# Altium footprint library DZ_LIB.PcbLib: 89 footprints (part 2 of 6)
Each footprint in its own frame and in the unit in brackets; x right, y up, seen from the top. Pads: shape width x height; smd on the part's side, far side on the other; paste and mask are expansions set on the pad; w line width, h text height; cw(c..) or ccw(c..) is an arc to the next point about the centre after c.
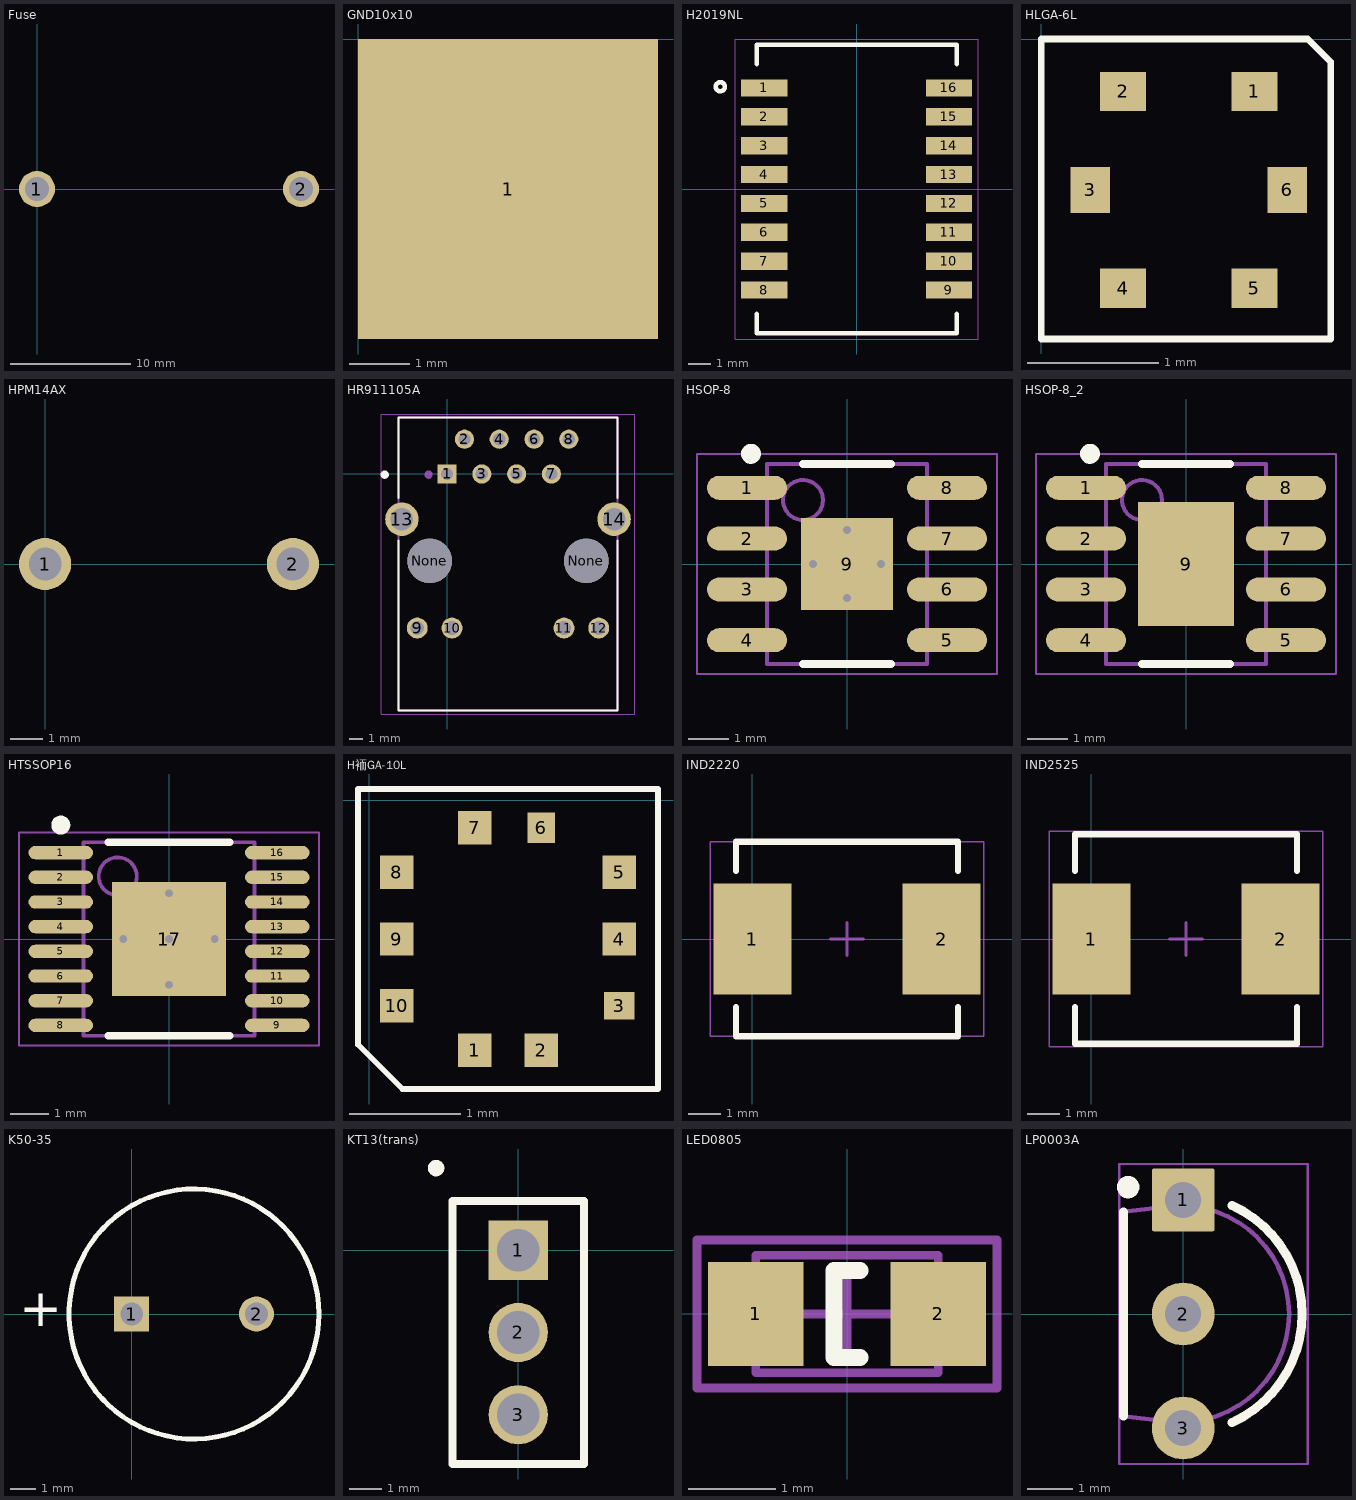
[diagram p1: the footprints below, top view; thin cyan lines are the x and y axes]

## Fuse [mm]
pads (2):
  round 3 hole 2: 1(0,0.002) 2(22,0.002)
3D body "User Library-Fuse_Holder_Body.SLDPRT": height 8, standoff 1, extent 0,-4.498 22,4.502
3D body "User Library-Fuse_Holder_Fuse.SLDPRT": height 13.5, standoff 8.5, extent 1,-2.497 21,2.497
3D body "User Library-Fuse_Holder_pin.SLDPRT": height 14.22, standoff -4.63, extent 15.71,-3.009 22.29,3.002
3D body "User Library-Fuse_Holder_pin.SLDPRT": height 14.22, standoff -4.63, extent -0.29,-2.998 6.29,3.014

## GND10x10 [mm] "GND"
pads (1):
  rect 5x5 smd: 1(2.5,-2.5)

## H2019NL [mm]
pads (16):
  rect 2.035x0.76 smd: 1(-4.062,4.445) 2(-4.062,3.175) 3(-4.062,1.905) 4(-4.062,0.635) 5(-4.062,-0.635) 6(-4.062,-1.905) 7(-4.062,-3.175) 8(-4.062,-4.445) 9(4.062,-4.445) 10(4.062,-3.175) 11(4.062,-1.905) 12(4.062,-0.635) 13(4.062,0.635) 14(4.062,1.905) 15(4.062,3.175) 16(4.062,4.445)
Top Overlay:
  circle w0.2: c-6,4.5 r0.2
  lines w0.2: -4.395,-5.5 -4.395,-6.35 4.395,-6.35 4.395,-5.5 ; -4.395,5.5 -4.395,6.35 4.395,6.35 4.395,5.5
Mechanical 16:
  lines w0.05: -5.35,-6.6 -5.35,6.6 5.35,6.6 5.35,-6.6 -5.35,-6.6

## HLGA-6L [mm] "HTS221"
height 0.9
pads (6):
  rect 0.35x0.3 smd: 1(1.625,-0.4) 2(0.625,-0.4) 4(0.625,-1.9) 5(1.625,-1.9)
  rect 0.3x0.35 smd: 3(0.375,-1.15) 6(1.875,-1.15)
Top Overlay:
  lines w0.05: 0,-2.286 0,0 1.775,0 2.032,0 2.207,-0.175 2.207,-2.286 0,-2.286
3D body: height 1, standoff 0.1, extent 0.125,-2.15 2.125,-0.15

## HPM14AX [mm]
pads (2):
  round 1.6 hole 1: 1(0,0) 2(7.6,0)
3D body: height 8.5, standoff 1, extent -3.1,-6.898 10.7,6.898

## HR911105A [mm] "HANRUN RJ45"
pads (16):
  rect 1.398x1.398 hole 0.89: 1(0,0)
  round 1.398 hole 0.89: 2(1.27,2.54) 3(2.54,0) 4(3.81,2.54) 5(5.08,0) 6(6.35,2.54) 7(7.62,0) 8(8.89,2.54)
  round 1.53 hole 1.02: 9(-2.175,-11.25) 10(0.365,-11.25) 11(8.535,-11.25) 12(11.075,-11.25)
  round 2.445 hole 1.63: 13(-3.295,-3.3) 14(12.195,-3.3)
  round 3.25 hole 3.25 unplated: None(-1.265,-6.35) None(10.165,-6.35)
Top Overlay:
  circle w0.3: c-4.55,-0.05 r0.15
  lines w0.127: -3.55,-4.85 -3.55,-17.27 12.45,-17.27 12.45,-4.85 ; -3.55,-1.75 -3.55,4.13 12.45,4.13 12.45,-1.75
Mechanical 4:
  circle w0.3: c-1.35,-0.05 r0.15
  circle w0.3: c-1.35,-0.05 r0.15
  lines w0.127: -3.55,-17.27 -3.55,4.13 ; -3.55,-17.27 12.45,-17.27 ; -3.55,-17.27 -3.55,4.13 ; -3.55,-17.27 12.45,-17.27 ; -3.55,4.13 12.45,4.13 ; -3.55,4.13 12.45,4.13 ; 12.45,-17.27 12.45,4.13 ; 12.45,-17.27 12.45,4.13
Mechanical 16:
  lines w0.05: -4.8,-17.52 -4.8,4.38 13.7,4.38 13.7,-17.52 -4.8,-17.52
3D body "User Library-HR911105A.step": height 13.5, standoff -3, extent -3.49,-17.275 12.39,4.125

## HSOP-8 [mm] "SOIC, 8-Leads, Body 4.9x3.9mm, Pitch 1.27mm, Thermal Pad, IPC Medium Density"
height 1.7
pads (9):
  oval 2x0.6 smd: 1(-2.5,1.905) 2(-2.5,0.635) 3(-2.5,-0.635) 4(-2.5,-1.905) 5(2.5,-1.905) 6(2.5,-0.635) 7(2.5,0.635) 8(2.5,1.905)
  rect 2.3x2.3 smd paste-1.15: 9(0,0)
via 0.85,0 diameter 0.5 hole 0.2
via -0.85,0 diameter 0.5 hole 0.2
via 0,0.85 diameter 0.5 hole 0.2
via 0,-0.85 diameter 0.5 hole 0.2
Top Overlay:
  circle w0.25: c-2.4,2.755 r0.125
  lines w0.2: -1.1,-2.5 1.1,-2.5 ; -1.1,2.5 1.1,2.5
Top Paste:
  region: 0.1,-0.1 0.1,-1.05 1.05,-1.05 1.05,-0.1
  region: -0.1,-0.1 -1.05,-0.1 -1.05,-1.05 -0.1,-1.05
  region: -0.1,0.1 -0.1,1.05 -1.05,1.05 -1.05,0.1
  rectangle: 0.1,0.1 1.05,1.05
Mechanical 13:
  circle w0.1: c-1.1,1.6 r0.5
  lines w0.1: -2,-2.5 2,-2.5 2,2.5 -2,2.5 -2,-2.5
Mechanical 15:
  lines w0.05: -3.75,-2.75 -3.75,2.75 3.75,2.75 3.75,-2.75 -3.75,-2.75
  lines w0.1: -0.5,0 0.5,0 ; 0,-0.5 0,0.5
3D body: height 1.7, standoff 0, extent -2,-2.5 2,2.5

## HSOP-8_2 [mm] "SOIC, 8-Leads, Body 4.9x3.9mm, Pitch 1.27mm, Thermal Pad, IPC Medium Density"
height 1.75
pads (9):
  oval 2x0.6 smd: 1(-2.5,1.905) 2(-2.5,0.635) 3(-2.5,-0.635) 4(-2.5,-1.905) 5(2.5,-1.905) 6(2.5,-0.635) 7(2.5,0.635) 8(2.5,1.905)
  rect 2.4x3.1 smd paste-1.2: 9(0,0)
Top Overlay:
  circle w0.25: c-2.4,2.755 r0.125
  lines w0.2: -1.1,-2.5 1.1,-2.5 ; -1.1,2.5 1.1,2.5
Top Paste:
  rectangle: 0.1,0.1 1.1,1.45
  region: -0.1,1.45 -1.1,1.45 -1.1,0.1 -0.1,0.1
  region: -0.1,-0.1 -1.1,-0.1 -1.1,-1.45 -0.1,-1.45
  rectangle: 0.1,-1.45 1.1,-0.1
Mechanical 13:
  circle w0.1: c-1.1,1.6 r0.5
  lines w0.1: -2,-2.5 2,-2.5 2,2.5 -2,2.5 -2,-2.5
Mechanical 15:
  lines w0.05: -3.75,-2.75 3.75,-2.75 3.75,2.75 -3.75,2.75 -3.75,-2.75
  lines w0.1: -0.5,0 0.5,0 ; 0,-0.5 0,0.5
3D body: height 1.75, standoff 0, extent -2,-2.5 2,2.5

## HTSSOP16 [mm] "TSOP, 16-Leads, Body 5x4.4mm, Pitch 0.65mm, Thermal Pad 3x3mm, IPC Medium Density"
height 1.2
pads (17):
  oval 1.7x0.35 smd: 1(-2.85,2.275) 2(-2.85,1.625) 3(-2.85,0.975) 4(-2.85,0.325) 5(-2.85,-0.325) 6(-2.85,-0.975) 7(-2.85,-1.625) 8(-2.85,-2.275) 9(2.85,-2.275) 10(2.85,-1.625) 11(2.85,-0.975) 12(2.85,-0.325) 13(2.85,0.325) 14(2.85,0.975) 15(2.85,1.625) 16(2.85,2.275)
  rect 3x3 smd paste-1.5: 17(0,0)
via 0,-1.2 diameter 0.5 hole 0.2
via 0,1.2 diameter 0.5 hole 0.2
via -1.2,0 diameter 0.5 hole 0.2
via 0,0 diameter 0.5 hole 0.2
via 1.2,0 diameter 0.5 hole 0.2
Top Overlay:
  circle w0.25: c-2.85,3 r0.125
  lines w0.2: -1.6,-2.55 1.6,-2.55 ; -1.6,2.55 1.6,2.55
Top Paste:
  rectangle: 0.1,0.1 1.35,1.35
  region: -0.1,1.35 -1.35,1.35 -1.35,0.1 -0.1,0.1
  region: -0.1,-0.1 -1.35,-0.1 -1.35,-1.35 -0.1,-1.35
  rectangle: 0.1,-1.35 1.35,-0.1
Mechanical 13:
  circle w0.1: c-1.35,1.65 r0.5
  lines w0.1: -2.25,-2.55 -2.25,2.55 2.25,2.55 2.25,-2.55 -2.25,-2.55
Mechanical 15:
  lines w0.05: -3.95,-2.8 -3.95,2.8 3.95,2.8 3.95,-2.8 -3.95,-2.8
  lines w0.1: -0.5,0 0.5,0 ; 0,-0.5 0,0.5
3D body: height 1.2, standoff 0, extent -2.25,-2.55 2.25,2.55

## H袻GA-10L [mm] "LPS22HB"
height 0.8
pads (10):
  rect 0.3x0.3 smd: 1(0.95,-2.25) 2(1.55,-2.25) 4(2.25,-1.25) 5(2.25,-0.65) 7(0.95,-0.25) 8(0.25,-0.65) 9(0.25,-1.25) 10(0.25,-1.85)
  rect 0.275x0.25 smd: 3(2.25,-1.85)
  rect 0.25x0.275 smd: 6(1.55,-0.25)
Top Overlay:
  lines w0.05: -0.1,-2.2 0.3,-2.6 2.6,-2.6 2.6,0.1 -0.1,0.1 -0.1,-2.2
3D body: height 0.8, standoff 0.1, extent 0.006,-2.506 2.519,0.006

## IND2220 [mil] "SMD, 2-Leads"
height 118.11
pads (2):
  rect 95x135 smd: 1(0,0) 2(230,0)
Top Overlay:
  lines w7.87: -20.04,-83.25 -20.04,-118.11 250.04,-118.11 250.04,-83.25 ; -20.04,83.25 -20.04,118.11 250.04,118.11 250.04,83.25
Mechanical 15:
  lines w1.97: -51.44,-118.11 -51.44,118.11 281.44,118.11 281.44,-118.11 -51.44,-118.11
  lines w3.94: 95.31,0 134.69,0 ; 115,-19.68 115,19.69
3D body "LQH55DN.stp": height 185.04, standoff 0, extent 2.8,-98.42 227.21,98.43

## IND2525 [mil] "SMD, 2-Leads"
height 118.11
pads (2):
  rect 95x135 smd: 1(0,0) 2(230,0)
Top Overlay:
  lines w7.87: -20.04,-83.25 -20.04,-127.36 250.04,-127.36 250.04,-83.25 ; -20.04,83.25 -20.04,127.36 250.04,127.36 250.04,83.25
Mechanical 15:
  lines w1.97: -51.44,-131.3 281.44,-131.3 281.44,131.3 -51.44,131.3 -51.44,-131.3
  lines w3.94: 95.31,0 134.69,0 ; 115,-19.68 115,19.69
3D body "LQH66SN.stp": height 185.04, standoff -0.16, extent -9.02,-124.02 239.02,124.02

## K50-35 [mm] "Jamicon 470uF 25V"
pads (2):
  rect 1.4x1.4 hole 0.9: 1(0,0)
  round 1.4 hole 0.9: 2(5,0)
Top Overlay:
  circle w0.2: c2.5,0 r5
  text "+" at -4.5,-0.5 h1.5
3D body: height 13.5, standoff 1, extent -2.5,-5 7.5,5

## KT13(trans) [mm]
height 6
pads (3):
  rect 1.8x1.8 hole 1.3: 1(0,0)
  round 1.8 hole 1.3: 2(0,-2.5) 3(0,-5)
Top Overlay:
  circle w0.25: c-2.5,2.5 r0.125
  lines w0.254: -2,-6.5 2,-6.5 2,1.5 -2,1.5 -2,-6.5
3D body "User Library-KT315-1.SLDPRT": height 5.5, standoff -4.5, extent -1.5,-6.1 1.5,1.1

## LED0805 [mm] "Chip LED, 2-Leads, Body 2.0x1.3mm, IPC Medium Density"
height 0.8
pads (2):
  rect 1.1x1.2 smd: 1(-1.05,0) 2(1.05,0)
Top Overlay:
  lines w0.2: 0.15,-0.5 -0.15,-0.5 -0.15,0.5 0.15,0.5
Mechanical 13:
  lines w0.1: -1.05,-0.675 -1.05,0.675 1.05,0.675 1.05,-0.675 -1.05,-0.675
Mechanical 15:
  lines w0.1: -0.5,0 0.5,0 ; 0,-0.5 0,0.5 ; -1.725,-0.85 -1.725,0.85 1.725,0.85 1.725,-0.85 -1.725,-0.85
3D body "WL-SMCW_0805_LED.stp": height 0.68, standoff -0.02, extent -1,-0.625 1,0.625

## LP0003A [mm] "TO, Flat Index; 3 In-Line, Formed Axial Leads; Body Dia. 4.8mm; Leads 0.56 x 0.41 mm (max)"
height 9.33
pads (3):
  rrect7% 1.4x1.4 hole 0.8: 1(0,2.54)
  round 1.4 hole 0.8: 2(0,0) 3(0,-2.54)
Top Overlay:
  circle w0.25: c-1.225,2.825 r0.125
  lines w0.2: -1.325,-2.273 -1.325,2.273 ; 1.092,-2.415 ccw(c0,0) 1.092,2.415
Mechanical 1:
  text ".Designator" at -1.009,-0.429 h0.76
Mechanical 13:
  lines w0.1: 0.195,-2.4 0.195,-2.722 0.195,-2.83 -0.185,-2.83 -0.185,-2.722 -0.185,-2.412 ; 0.195,2.4 0.195,2.722 0.195,2.83 -0.185,2.83 -0.185,2.722 -0.185,2.412 ; -0.185,-2.412 -1.325,-2.273 -1.325,2.273 -0.185,2.412 ; -0.185,-2.412 -0.055,-2.412 ccw(c-0.055,0) -0.055,2.412 -0.185,2.412
Mechanical 15:
  lines w0.05: -1.425,-3.34 -1.425,3.34 2.775,3.34 2.775,-3.34 -1.425,-3.34
  lines w0.1: -0.5,0 0.5,0 ; 0,-0.5 0,0.5
3D body "LP0003B.stp": height 9.01, standoff -8.51, extent -1.333,-2.83 2.349,2.83